# Altium schematic symbol library ATmega8-TQFP.SchLib: 3 symbols
Pins are listed as number, name and electrical type; pins without a type are passive.

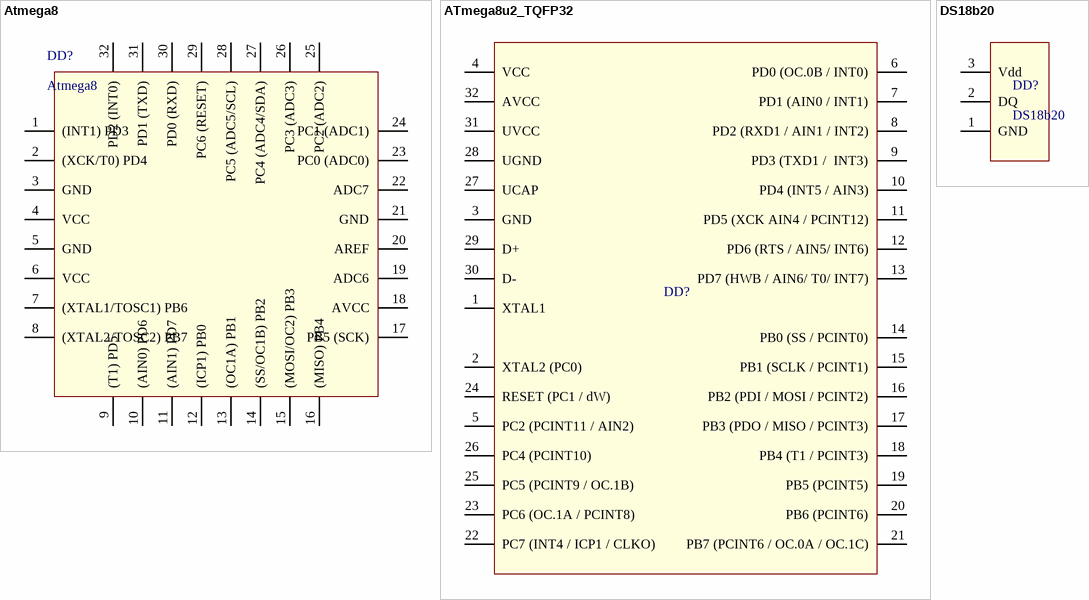
[diagram p0: symbols Atmega8 to DS18b20]

## Atmega8
designator DD?
footprint TQFP32
pins: 1 (INT1) PD3, 2 (XCK/T0) PD4, 3 GND, 4 VCC, 5 GND, 6 VCC, 7 (XTAL1/TOSC1) PB6, 8 (XTAL2/TOSC2) PB7, 9 (T1) PD5, 10 (AIN0) PD6, 11 (AIN1) PD7, 12 (ICP1) PB0, 13 (OC1A) PB1, 14 (SS/OC1B) PB2, 15 (MOSI/OC2) PB3, 16 (MISO) PB4, 17 PB5 (SCK), 18 AVCC, 19 ADC6, 20 AREF, 21 GND, 22 ADC7, 23 PC0 (ADC0), 24 PC1 (ADC1), 25 PC2 (ADC2), 26 PC3 (ADC3), 27 PC4 (ADC4/SDA), 28 PC5 (ADC5/SCL), 29 PC6 (RESET), 30 PD0 (RXD), 31 PD1 (TXD), 32 PD2 (INT0)

## ATmega8u2_TQFP32
designator DD?  (value not drawn)
footprint TQFP32
pins: 1 XTAL1, 2 XTAL2 (PC0), 3 GND, 4 VCC, 5 PC2 (PCINT11 / AIN2), 6 PD0 (OC.0B / INT0), 7 PD1 (AIN0 / INT1), 8 PD2 (RXD1 / AIN1 / INT2), 9 PD3 (TXD1 /  INT3), 10 PD4 (INT5 / AIN3), 11 PD5 (XCK AIN4 / PCINT12), 12 PD6 (RTS / AIN5/ INT6), 13 PD7 (HWB / AIN6/ T0/ INT7), 14 PB0 (SS / PCINT0), 15 PB1 (SCLK / PCINT1), 16 PB2 (PDI / MOSI / PCINT2), 17 PB3 (PDO / MISO / PCINT3), 18 PB4 (T1 / PCINT3), 19 PB5 (PCINT5), 20 PB6 (PCINT6), 21 PB7 (PCINT6 / OC.0A / OC.1C), 22 PC7 (INT4 / ICP1 / CLKO), 23 PC6 (OC.1A / PCINT8), 24 RESET (PC1 / dW), 25 PC5 (PCINT9 / OC.1B), 26 PC4 (PCINT10), 27 UCAP, 28 UGND, 29 D+, 30 D-, 31 UVCC, 32 AVCC

## DS18b20
designator DD?
footprint TO-92
pins: 1 GND, 2 DQ, 3 Vdd